# Altium footprint library Geral_Footprints.PcbLib: 16 footprints
Each footprint in its own frame and in the unit in brackets; x right, y up, seen from the top. Pads: shape width x height; smd on the part's side, far side on the other; paste and mask are expansions set on the pad; w line width, h text height; cw(c..) or ccw(c..) is an arc to the next point about the centre after c.
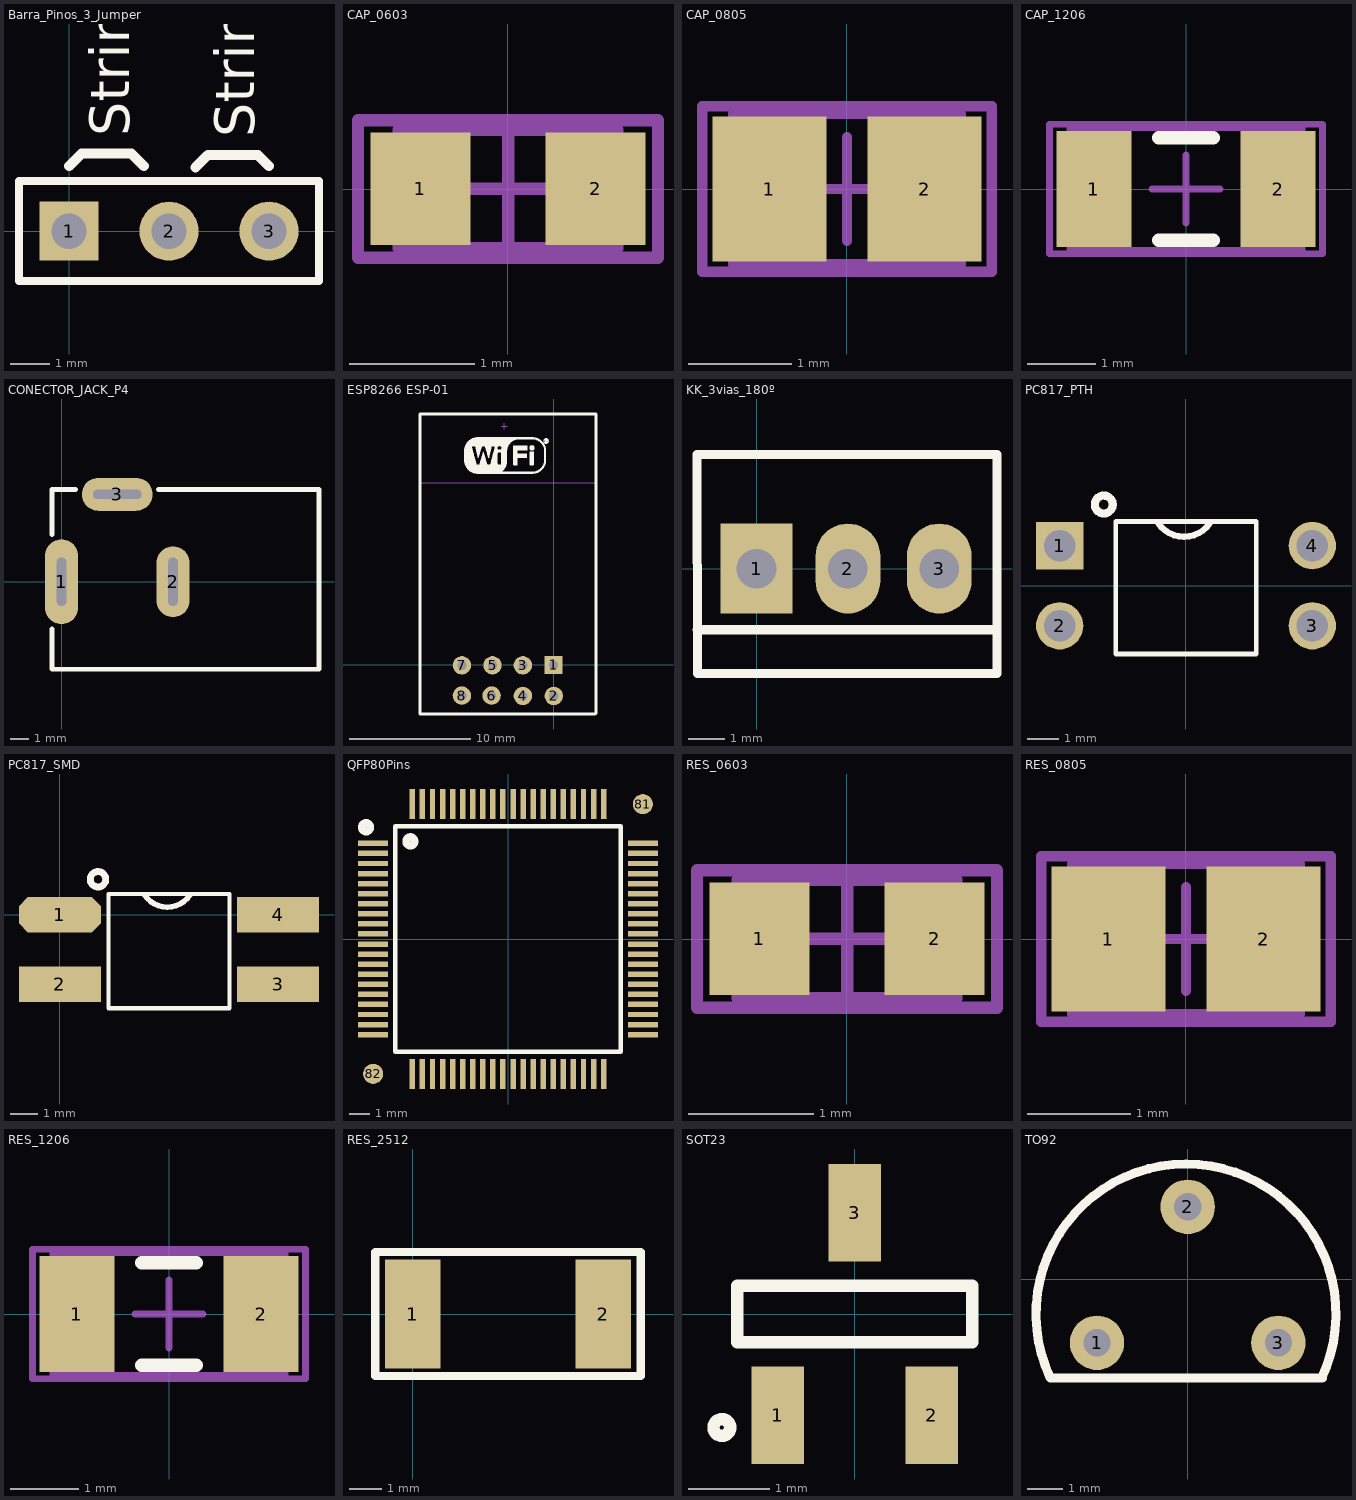
[diagram p0: the footprints below, top view; thin cyan lines are the x and y axes]

## Barra_Pinos_3_Jumper [mm]
pads (3):
  rect 1.5x1.5 hole 0.9: 1(0,0)
  round 1.5 hole 0.9: 2(2.54,0) 3(5.08,0)
Top Overlay:
  lines w0.2: -1.27,-1.27 6.35,-1.27 6.35,1.27 -1.27,1.27 -1.27,-1.27
  lines w0.254: 0,1.651 0.318,1.968 1.587,1.968 1.905,1.651 ; 3.207,1.619 3.524,1.937 4.794,1.937 5.08,1.651
  text "String" at 4.699,2.381 h1
  text "String" at 1.524,2.413 h1
3D body: height 16.31, standoff -2.5, extent -1.21,-1.243 6.29,1.257

## CAP_0603 [mm]
pads (2):
  rect 0.8x0.9 smd: 1(-0.7,0) 2(0.7,0)
Mechanical 13:
  lines w0.1: -0.875,-0.475 -0.875,0.475 0.875,0.475 0.875,-0.475 -0.875,-0.475
Mechanical 15:
  lines w0.1: -0.475,0 0.475,0 ; 0,-0.475 0,0.475 ; -1.2,-0.55 -1.2,0.55 1.2,0.55 1.2,-0.55 -1.2,-0.55
3D body: height 0.9, standoff 0, extent -0.8,-0.4 0.8,0.4

## CAP_0805 [mm]
pads (2):
  rect 1.1x1.4 smd: 1(-0.75,0) 2(0.75,0)
Mechanical 13:
  lines w0.1: -1.1,-0.725 1.1,-0.725 1.1,0.725 -1.1,0.725 -1.1,-0.725
Mechanical 15:
  lines w0.1: -0.5,0 0.5,0 ; 0,-0.5 0,0.5 ; -1.4,-0.8 1.4,-0.8 1.4,0.8 -1.4,0.8 -1.4,-0.8
3D body: height 1, standoff 0, extent -1,-0.625 1,0.625

## CAP_1206 [mm]
pads (2):
  rect 1.1x1.7 smd: 1(-1.35,0) 2(1.35,0)
Top Overlay:
  lines w0.2: -0.4,-0.75 0.4,-0.75 ; -0.4,0.75 0.4,0.75
Mechanical 13:
  lines w0.1: -1.7,-0.9 -1.7,0.9 1.7,0.9 1.7,-0.9 -1.7,-0.9
Mechanical 15:
  lines w0.1: -0.5,0 0.5,0 ; 0,-0.5 0,0.5 ; -2,-0.95 -2,0.95 2,0.95 2,-0.95 -2,-0.95
3D body: height 1, standoff 0, extent -1.6,-0.8 1.6,0.8

## CONECTOR_JACK_P4 [mil]
pads (3):
  oval 70x180 hole 19.68 slot 102.36 at 90 deg mask+2: 1(0,0)
  oval 70x150 hole 19.68 slot 102.36 at 90 deg mask+2: 2(236,0)
  oval 150x70 hole 19.68 slot 102.36 at 0 deg mask+2: 3(118,185)
Top Overlay:
  lines w10: -20,-100 -20,-185 545,-185 545,195 205,195 ; -20,100 -20,195 30,195
3D body: height 435.04, standoff -157.48, extent -14.45,-184.13 542.64,193.17

## ESP8266 ESP-01 [mil]
pads (8):
  rect 60x60 hole 30: 1(0,0)
  round 60 hole 30: 2(1,-101) 3(-100,-1) 4(-100,-101) 5(-199,-1) 6(-202,-100) 7(-299,-1) 8(-299,-100)
Top Overlay:
  drawing of 1265 lines, arcs and shapes, not listed
  text ".Designator" at -451,-198 h39.37
Mechanical 13:
  lines w2: -435.96,594.97 139,594.97
  text "ANTENNA AREA" at -425.96,797.59 h10
  text "CUTOUT POLYGON" at -425.96,777.59 h10
Mechanical 15:
  lines w3.94: -171,778.92 -151,778.92 ; -161,768.92 -161,788.92
3D body: height 3.94, standoff -455.8, extent -436,-156 134.87,820.38

## KK_3vias_180º [mm]
pads (3):
  rect 2x2.5 hole 1.1: 1(0,0)
  oval 1.8x2.5 hole 1.1: 2(2.54,0) 3(5.08,0)
Top Overlay:
  lines w0.254: -1.651,-1.7 6.685,-1.7 ; -1.655,3.175 6.685,3.175 6.685,-2.921 -1.644,-2.921 -1.655,3.175
3D body: height 11.9, standoff -3.38, extent -1.605,-2.952 6.685,3.048

## PC817_PTH [mm]
pads (4):
  rect 1.5x1.5 hole 1 unplated: 1(-4,1.27)
  round 1.5 hole 1 unplated: 2(-4,-1.27) 3(4,-1.27) 4(4,1.27)
Top Overlay:
  circle w0.254: c-2.603,2.57 r0.284
  lines w0.152: -2.222,-2.159 2.223,-2.159 2.223,2.032 -2.222,2.032 -2.222,-2.159
  lines w0.2: -0.888,1.99 ccw(c-0.063,2.54) 0.762,1.99
3D body: height 4.3, standoff -2.7, extent -3.94,-2.422 3.94,2.168

## PC817_SMD [mm]
pads (4):
  oct 3x1.3 smd: 1(0,0)
  rect 3x1.3 smd: 2(0,-2.54) 3(8,-2.54) 4(8,0)
Top Overlay:
  circle w0.254: c1.397,1.3 r0.284
  lines w0.152: 1.778,-3.429 6.223,-3.429 6.223,0.762 1.778,0.762 1.778,-3.429
  lines w0.2: 3.112,0.72 ccw(c3.937,1.27) 4.762,0.72
3D body: height 3.75, standoff -0.1, extent -1,-3.56 9,1.02

## QFP80Pins [mm]
pads (82):
  rect 1.5x0.27 smd: 1(-6.7,4.75) 2(-6.7,4.25) 3(-6.7,3.75) 4(-6.7,3.25) 5(-6.7,2.75) 6(-6.7,2.25) 7(-6.7,1.75) 8(-6.7,1.25) 9(-6.7,0.75) 10(-6.7,0.25) 11(-6.7,-0.25) 12(-6.7,-0.75) 13(-6.7,-1.25) 14(-6.7,-1.75) 15(-6.7,-2.25) 16(-6.7,-2.75) 17(-6.7,-3.25) 18(-6.7,-3.75) 19(-6.7,-4.25) 20(-6.7,-4.75) 41(6.7,-4.75) 42(6.7,-4.25) 43(6.7,-3.75) 44(6.7,-3.25) 45(6.7,-2.75) 46(6.7,-2.25) 47(6.7,-1.75) 48(6.7,-1.25) 49(6.7,-0.75) 50(6.7,-0.25) 51(6.7,0.25) 52(6.7,0.75) 53(6.7,1.25) 54(6.7,1.75) 55(6.7,2.25) 56(6.7,2.75) 57(6.7,3.25) 58(6.7,3.75) 59(6.7,4.25) 60(6.7,4.75)
  rect 0.27x1.5 smd: 21(-4.75,-6.7) 22(-4.25,-6.7) 23(-3.75,-6.7) 24(-3.25,-6.7) 25(-2.75,-6.7) 26(-2.25,-6.7) 27(-1.75,-6.7) 28(-1.25,-6.7) 29(-0.75,-6.7) 30(-0.25,-6.7) 31(0.25,-6.7) 32(0.75,-6.7) 33(1.25,-6.7) 34(1.75,-6.7) 35(2.25,-6.7) 36(2.75,-6.7) 37(3.25,-6.7) 38(3.75,-6.7) 39(4.25,-6.7) 40(4.75,-6.7) 61(4.75,6.7) 62(4.25,6.7) 63(3.75,6.7) 64(3.25,6.7) 65(2.75,6.7) 66(2.25,6.7) 67(1.75,6.7) 68(1.25,6.7) 69(0.75,6.7) 70(0.25,6.7) 71(-0.25,6.7) 72(-0.75,6.7) 73(-1.25,6.7) 74(-1.75,6.7) 75(-2.25,6.7) 76(-2.75,6.7) 77(-3.25,6.7) 78(-3.75,6.7) 79(-4.25,6.7) 80(-4.75,6.7)
  round 1 smd: 81(6.7,6.7) 82(-6.7,-6.7)
Top Overlay:
  circle w0.381: c-4.85,4.85 r0.212
  circle w0.381: c-7.05,5.55 r0.212
  lines w0.2: -5.6,-5.6 5.6,-5.6 5.6,5.6 -5.6,5.6 -5.6,-5.6
3D body: height 1.6, standoff 0, extent -7.1,-7.1 7.1,7.1

## RES_0603 [mm]
pads (2):
  rect 0.8x0.9 smd: 1(-0.7,0) 2(0.7,0)
Mechanical 13:
  lines w0.1: -0.875,-0.475 0.875,-0.475 0.875,0.475 -0.875,0.475 -0.875,-0.475
Mechanical 15:
  lines w0.1: -0.475,0 0.475,0 ; 0,-0.475 0,0.475 ; -1.2,-0.55 1.2,-0.55 1.2,0.55 -1.2,0.55 -1.2,-0.55
3D body: height 0.5, standoff 0, extent -0.8,-0.45 0.8,0.45

## RES_0805 [mm]
pads (2):
  rect 1.1x1.4 smd: 1(-0.75,0) 2(0.75,0)
Mechanical 13:
  lines w0.1: -1.1,-0.725 1.1,-0.725 1.1,0.725 -1.1,0.725 -1.1,-0.725
Mechanical 15:
  lines w0.1: -0.5,0 0.5,0 ; 0,-0.5 0,0.5 ; -1.4,-0.8 1.4,-0.8 1.4,0.8 -1.4,0.8 -1.4,-0.8
3D body: height 0.75, standoff 0, extent -1.15,-0.675 1.15,0.675

## RES_1206 [mm]
pads (2):
  rect 1.1x1.7 smd: 1(-1.35,0) 2(1.35,0)
Top Overlay:
  lines w0.2: -0.4,-0.75 0.4,-0.75 ; -0.4,0.75 0.4,0.75
Mechanical 13:
  lines w0.1: -1.7,-0.9 1.7,-0.9 1.7,0.9 -1.7,0.9 -1.7,-0.9
Mechanical 15:
  lines w0.1: -0.5,0 0.5,0 ; 0,-0.5 0,0.5 ; -2,-0.95 2,-0.95 2,0.95 -2,0.95 -2,-0.95
3D body: height 0.6, standoff 0, extent -1.6,-0.8 1.6,0.8

## RES_2512 [mm]
pads (2):
  rect 1.7x3.35 smd: 1(0,0) 2(5.842,0)
Top Overlay:
  lines w0.254: -1.143,-1.9 6.985,-1.9 6.985,1.9 -1.143,1.9 -1.143,-1.9
3D body: height 0.6, standoff 0, extent -0.279,-1.6 6.121,1.6

## SOT23 [mm] "Transistor"
pads (3):
  rect 0.65x1.2 smd: 1(-0.95,-1.25) 2(0.95,-1.25) 3(0,1.25)
Top Overlay:
  circle w0.152: c-1.64,-1.4 r0.103
  lines w0.152: -1.45,-0.35 -1.45,0.35 1.45,0.35 1.45,-0.35 -1.45,-0.35
3D body: height 1.08, standoff -0.02, extent -1.5,-1.25 1.5,1.25

## TO92 [mil]
pads (3):
  round 60 hole 30: 1(-100,-70) 2(0,80) 3(100,-70)
Top Overlay:
  lines w10: -151.5,-108.88 148.3,-108.88 ; -151.42,-108.82 cw(c-1.9,-38.21) 147.79,-108.45
3D body: height 381.89, standoff -106.3, extent -110.08,-78.9 110,90
3D body: height 381.89, standoff -106.3, extent -110.08,-78.9 110,90